# Altium schematic symbol library EDR.SchLib: 81 symbols
Pins are listed as number, name and electrical type; pins without a type are passive.

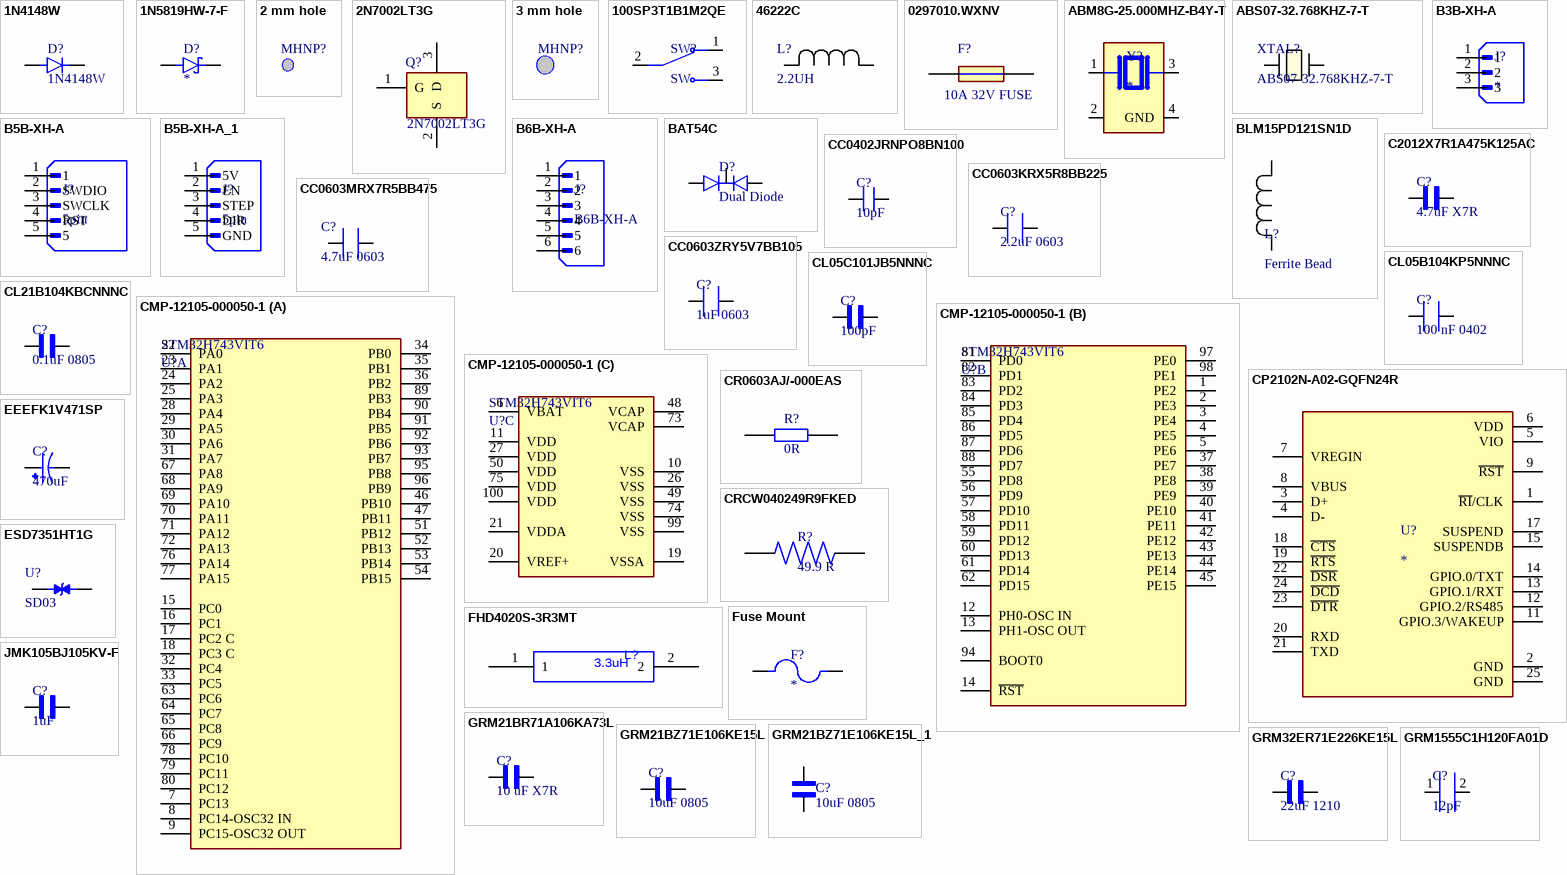
[diagram p0: symbols 1N4148W to JMK105BJ105KV-F]

## 1N4148W
designator D?
Small Signal Diode, SOD-123F, 100V, 0.15A, 150Â°C; MF: Diotec Semiconductor; SnapEDA_Link: https://www.snapeda.com/parts/1N4148W/Diotec/view-part/?ref=snap; Package: SOD-123F Diotec; Value: *; MP: 1N4148W; Check_prices: https://www.snapeda.com/parts/1N4148W/Diotec/view-part/?ref=eda
footprint SODFL3816X120N
pins: A, C K

## 1N5819HW-7-F
designator D?
Diode Schottky 40 V 1A Surface Mount SOD-123; MF: Diodes Inc.; MP: 1N5819HW-7-F; Value: *; SnapEDA_Link: https://www.snapeda.com/parts/1N5819HW-7-F/Diodes+Inc./view-part/?ref=snap; Purchase-URL: https://pricing.snapeda.com/search/part/1N5819HW-7-F/?ref=eda; Availability: In Stock; Price: None; Package: SOD-123 Fairchild Semiconductor; Check_prices: https://www.snapeda.com/parts/1N5819HW-7-F/Diodes+Inc./view-part/?ref=eda
footprint SOD3715X145N
pins: A, C K

## 2 mm hole
designator MHNP?, comment Mounting Hole Non plated 2mm  (value not drawn)
footprint 2 mm hole (Mounting Hole Non plated 2mm)

## 2N7002LT3G
designator Q?
RoHS Compliant; Small package discrete; Manufacturer_Name: onsemi; Geometry.Height: 1.11mm; Manufacturer_Part_Number: 2N7002LT3G; Mouser Part Number: 863-2N7002LT3G; Mouser Price/Stock: https://www.mouser.co.uk/ProductDetail/onsemi/2N7002LT3G?qs=vLkC5FC1VN%2FhV1CBpCulsw%3D%3D; Arrow Part Number: 2N7002LT3G; Arrow Price/Stock: https://www.arrow.com/en/products/2n7002lt3g/on-semiconductor?utm_currency=USD&region=nac; Datasheet Link: https://www.onsemi.com/pub/Collateral/2N7002L-D.PDF
footprint SOT96P237X111-3N
pins: 1 G, 2 S, 3 D

## 3 mm hole
designator MHNP?, comment Mounting Hole Non plated 2mm  (value not drawn)
Mounting Hole Non plated 3mm
footprint 3 mm hole (Mounting Hole Non plated 3mm)

## 100SP3T1B1M2QE
designator SW?, comment SW
TOGGLE, 5A, 120VAC/28VDC SPDT, On-Off-On, Panel Mount, Through Hole; MF: E-Switch; MP: 100SP3T1B1M2QE; SnapEDA_Link: https://www.snapeda.com/parts/100SP3T1B1M2QE/E-Switch/view-part/?ref=snap; Package: None; Value: *; Check_prices: https://www.snapeda.com/parts/100SP3T1B1M2QE/E-Switch/view-part/?ref=eda
footprint SW_100SP3T1B1M2QE
pins: 1, 2, 3

## 46222C
designator L?, comment 2.2UH
FIXED IND 2.2UH 5A 21 MOHM SMD; Manufacturer_Name: Murata; Manufacturer_Part_Number: 46222C; Copyright: Copyright (C) 2025 Ultra Librarian. All rights reserved.
footprint IND_4600_MUR
pins: 1, 2

## 0297010.WXNV
designator F?, comment 10A 32V FUSE
10 A AC 32 V DC Fuse Automotive Requires Holder Blade, Miniature; Manufacturer_Name: LITTELFUSE; Manufacturer_Part_Number: 0297010.WXNV; Geometry.Height: 8.8mm; Mouser Part Number: 576-0297010.WXNV; Mouser Price/Stock: https://www.mouser.co.uk/ProductDetail/Littelfuse/0297010.WXNV?qs=bpnLQM2ZShyfiVIOvdY7nQ%3D%3D; Arrow Part Number: 0297010.WXNV; Arrow Price/Stock: https://www.arrow.com/en/products/0297010.wxnv/littelfuse?utm_currency=USD&region=europe; Datasheet Link: https://www.littelfuse.com/~/media/automotive/datasheets/fuses/passenger-car-and-commercial-vehicle/blade-fuses/littelfuse_mini_datasheet.pdf
footprint 0297010WXNV
pins: 1, 2

## ABM8G-25.000MHZ-B4Y-T
designator Y?
25 MHz Â±30ppm Crystal 10pF 60 Ohms 4-SMD, No Lead; MP: ABM8G-25.000MHZ-B4Y-T; MF: Abracon; Value: *; SnapEDA_Link: https://www.snapeda.com/parts/ABM8G-25.000MHZ-B4Y-T/Abracon+LLC/view-part/?ref=snap; Check_prices: https://www.snapeda.com/parts/ABM8G-25.000MHZ-B4Y-T/Abracon+LLC/view-part/?ref=eda; Availability: In Stock; Price: None; Purchase-URL: https://pricing.snapeda.com/search/part/ABM8G-25.000MHZ-B4Y-T/?ref=eda; Package: SMD-4 Abracon
footprint XTAL_ABM8G-25.000MHZ-B4Y-T
pins: 1, 2 GND (power), 3 2, 4 GND (power)

## ABS07-32.768KHZ-7-T
designator XTAL?
Description; Manufacturer_Name: Abracon; Copyright: Copyright (C) 2025 Ultra Librarian. All rights reserved.; Manufacturer_Part_Number: ABS07-32.768KHZ-7-T
footprint XTAL_ABS07-32.768KHZ-7-T_ABR
pins: 1, 2

## B3B-XH-A
designator J?
Connector Header Through Hole 3 position 0.098 (2.50mm); MF: JST Sales; MP: B3B-XH-A; SnapEDA_Link: https://www.snapeda.com/parts/B3B-XH-A/JST/view-part/?ref=snap; Package: None; Value: *; Check_prices: https://www.snapeda.com/parts/B3B-XH-A/JST/view-part/?ref=eda
footprint JST_B3B-XH-A
pins: 1, 2, 3

## B5B-XH-A
designator J?, comment 5pin
Connector Header Through Hole 5 position 0.098 (2.50mm); MF: JST Sales; MP: B5B-XH-A; SnapEDA_Link: https://www.snapeda.com/parts/B5B-XH-A/JST+Sales+America+Inc./view-part/?ref=snap; Package: None; Value: *; Check_prices: https://www.snapeda.com/parts/B5B-XH-A/JST+Sales+America+Inc./view-part/?ref=eda
footprint JST_B5B-XH-A
pins: 1, 2 SWDIO, 3 SWCLK, 4 RST, 5

## B5B-XH-A_1
designator J?, comment 5pin
Connector Header Through Hole 5 position 0.098 (2.50mm); MF: JST Sales; MP: B5B-XH-A; SnapEDA_Link: https://www.snapeda.com/parts/B5B-XH-A/JST+Sales+America+Inc./view-part/?ref=snap; Package: None; Value: *; Check_prices: https://www.snapeda.com/parts/B5B-XH-A/JST+Sales+America+Inc./view-part/?ref=eda
footprint JST_B5B-XH-A
pins: 1 5V, 2 EN, 3 STEP, 4 DIR, 5 GND

## B6B-XH-A
designator J?
Connector Header Through Hole 6 position 0.098 (2.50mm); MF: {'manufacturer': u'JST Sales America Inc.'}; Package: None; Price: None; Value: *; MP: B6B-XH-A; Availability: Unavailable
footprint JST_B6B-XH-A
pins: 1, 2, 3, 4, 5, 6

## BAT54C
designator D?, comment Dual Diode
DIODE, SCHOTTKY, DUAL; Diode Type:Schottky; Voltage, Vrrm:30V; Current, If AV:300mA; Current, Ifsm:1A; Voltage, Vf Max:0.4V; Max Junction Temperature, Tj:150Â°C; Termination Type:SMD; Case Style:SOT-23; No. of Pins:3; Current, If ;RoHS Compliant: Yes; MF: ON Semiconductor; MP: BAT54C; SnapEDA_Link: https://www.snapeda.com/parts/BAT54C/Onsemi/view-part/?ref=snap; Package: SOT-23-3 ON Semiconductor; Value: *; Check_prices: https://www.snapeda.com/parts/BAT54C/Onsemi/view-part/?ref=eda
footprint SOT23-R
pins: 1 A1, 2 A2, 3 C

## BLM15PD121SN1D
designator L?, comment Ferrite Bead
Description; Manufacturer_Name: Murata; Manufacturer_Part_Number: BLM15PD121SN1D; Copyright: Copyright (C) 2025 Ultra Librarian. All rights reserved.
footprint BLM15P_FBD
pins: 1, 2

## C2012X7R1A475K125AC
designator C?, comment 4.7uF X7R
C Series 0805 4.7 uF 10 V Â±10% Tolerance X7R SMT Multilayer Ceramic Capacitor; MF: TDK; MP: C2012X7R1A475K125AC; Check_prices: https://www.snapeda.com/parts/C2012X7R1A475K125AC/TDK-Lambda+Americas+Inc/view-part/?ref=eda; Purchase-URL: https://pricing.snapeda.com/search/part/C2012X7R1A475K125AC/?ref=eda; Value: *; Availability: In Stock; Price: None; Package: 2012 TDK; SnapEDA_Link: https://www.snapeda.com/parts/C2012X7R1A475K125AC/TDK-Lambda+Americas+Inc/view-part/?ref=snap
footprint CAPC2012X145N
pins: 1, 2

## CC0402JRNPO8BN100
designator C?, comment 10pF
10 pF Â±5% 25V Ceramic Capacitor C0G, NP0 0402 (1005 Metric); MF: Yageo; MP: CC0402JRNPO8BN100; SnapEDA_Link: https://www.snapeda.com/parts/CC0402JRNPO8BN100/Yageo/view-part/?ref=snap; Package: 0402 Yageo; Value: *; Check_prices: https://www.snapeda.com/parts/CC0402JRNPO8BN100/Yageo/view-part/?ref=eda
footprint CAPC1005X55N
pins: 1, 2

## CC0603KRX5R8BB225
designator C?, comment 2.2uF 0603
2.2 ÂµF Â±10% 25V Ceramic Capacitor X5R 0603 (1608 Metric); MF: Yageo; MP: CC0603KRX5R8BB225; SnapEDA_Link: https://www.snapeda.com/parts/CC0603KRX5R8BB225/Yageo/view-part/?ref=snap; Package: 0603 Yageo; Value: *; Check_prices: https://www.snapeda.com/parts/CC0603KRX5R8BB225/Yageo/view-part/?ref=eda
footprint CAPC1608X90
pins: 1, 2

## CC0603MRX7R5BB475
designator C?, comment 4.7uF 0603
No Description Available; Manufacturer_Name: Yageo; Manufacturer_Part_Number: CC0603MRX7R5BB475; Copyright: Copyright (C) 2026 Ultra Librarian. All rights reserved.
footprint CAP_CC0603_YAG
pins: 1, 2

## CC0603ZRY5V7BB105
designator C?, comment 1uF 0603
1 ÂµF -20%, +80% 16V Ceramic Capacitor Y5V (F) 0603 (1608 Metric); MF: Yageo; MP: CC0603ZRY5V7BB105; SnapEDA_Link: https://www.snapeda.com/parts/CC0603ZRY5V7BB105/Yageo/view-part/?ref=snap; Package: 0603 Yageo; Value: *; Check_prices: https://www.snapeda.com/parts/CC0603ZRY5V7BB105/Yageo/view-part/?ref=eda
footprint CAPC1608X90
pins: 1, 2

## CL05B104KP5NNNC
designator C?, comment 100 nF 0402
0.1 ÂµF Â±10% 10V Ceramic Capacitor X7R 0402 (1005 Metric); MF: Samsung Electro-Mechanics; MP: CL05B104KP5NNNC; SnapEDA_Link: https://www.snapeda.com/parts/CL05B104KP5NNNC/Samsung/view-part/?ref=snap; Package: SMD-2 Samsung; Value: *; Check_prices: https://www.snapeda.com/parts/CL05B104KP5NNNC/Samsung/view-part/?ref=eda
footprint CAPC1005X55N
pins: 1, 2

## CL05C101JB5NNNC
designator C?, comment 100pF
100 pF Â±5% 50V Ceramic Capacitor C0G, NP0 0402 (1005 Metric); MF: Samsung Electro-Mechanics; MP: CL05C101JB5NNNC; SnapEDA_Link: https://www.snapeda.com/parts/CL05C101JB5NNNC/Samsung/view-part/?ref=snap; Package: SMD-2 Samsung; Value: *; Check_prices: https://www.snapeda.com/parts/CL05C101JB5NNNC/Samsung/view-part/?ref=eda
footprint CAPC1005X55N
pins: 1, 2

## CL21B104KBCNNNC
designator C?, comment 0.1uF 0805
0.1 ÂµF Â±10% 50V Ceramic Capacitor X7R 0805 (2012 Metric); MF: Samsung Electro-Mechanics; MP: CL21B104KBCNNNC; SnapEDA_Link: https://www.snapeda.com/parts/CL21B104KBCNNNC/Samsung/view-part/?ref=snap; Package: SMD-2 Samsung; Value: *; Check_prices: https://www.snapeda.com/parts/CL21B104KBCNNNC/Samsung/view-part/?ref=eda
footprint CAPC2012X95N
pins: 1, 2

## CMP-12105-000050-1
designator U?, comment STM32H743VIT6
IC MCU 32BIT 2MB FLASH 100LQFP; Manufacturer: STMicroelectronics; Number Of Ethernet Channels: 1; Number Of Usb Channels: 2; Number Of A/D Converters: 3; Min Supply Voltage: 1.71V; Ram Size: 1060KBytes; Number Of I2C Channels: 4; Frequency: 480MHz; Number Of Adc Channels: 36; Number Of I/Os: 82; Max Supply Voltage: 3.6V; Number Of Spi Channels: 6; Memory Size: 2MBytes; Max Junction Temp: +125°C; Core Architecture: Arm Cortex-M7; Interface: I2C,SPI,UART,USART,USB,LIN,IrDA,Ethernet,I2S,Other; Number Of Timers/Counters: 20; Data Bus Width: 32bits; Number Of Pwm Channels: 42; Number Of Uart Channels: 9; Standoff Height: 0.05mm; Device Class L1: Integrated Circuits (ICs); ComponentLink2URL: https://www.st.com/resource/en/datasheet/stm32h743vi.pdf; Automotive: No; Memory Type: FLASH; Number Of Cores: 1; Temperature Range Low: -40°C; RoHS: TRUE; Ambient Temperature Range Low: -40°C; ComponentLink2Description: Datasheet; Device Class L2: Embedded Processors and Controllers; Device Class L3: Microcontrollers; Digikey Description: IC MCU 32BIT 2MB FLASH 100LQFP; Temperature Range High: +125°C; Ambient Temperature Range High: +85°C; Package: LQFP100-1L; Temperature: -40°C to +125°C; Category: IC; Ipc Land Pattern Name: QFP50P1600X1600X160-100; Height: 1.6mm; Manufacturer Part Number: STM32H743VIT6; Octopart: https://octopart.com/stm32h743vit6-stmicroelectronics-76372527; Lead Free: Yes
footprint FP-LQFP100-1L-MFG
footprint FP-LQFP100-1L-IPC_C
footprint FP-LQFP100-1L-IPC_A
footprint FP-LQFP100-1L-IPC_B
part A pins: 7 PC13, 8 PC14-OSC32 IN, 9 PC15-OSC32 OUT, 15 PC0, 16 PC1, 17 PC2 C, 18 PC3 C, 22 PA0, 23 PA1, 24 PA2, 25 PA3, 28 PA4, 29 PA5, 30 PA6, 31 PA7, 32 PC4, 33 PC5, 34 PB0, 35 PB1, 36 PB2, 46 PB10, 47 PB11, 51 PB12, 52 PB13, 53 PB14, 54 PB15, 63 PC6, 64 PC7, 65 PC8, 66 PC9, 67 PA8, 68 PA9, 69 PA10, 70 PA11, 71 PA12, 72 PA13, 76 PA14, 77 PA15, 78 PC10, 79 PC11, 80 PC12, 89 PB3, 90 PB4, 91 PB5, 92 PB6, 93 PB7, 95 PB8, 96 PB9
part B pins: 1 PE2, 2 PE3, 3 PE4, 4 PE5, 5 PE6, 12 PH0-OSC IN, 13 PH1-OSC OUT, 14 ~{RST}, 37 PE7, 38 PE8, 39 PE9, 40 PE10, 41 PE11, 42 PE12, 43 PE13, 44 PE14, 45 PE15, 55 PD8, 56 PD9, 57 PD10, 58 PD11, 59 PD12, 60 PD13, 61 PD14, 62 PD15, 81 PD0, 82 PD1, 83 PD2, 84 PD3, 85 PD4, 86 PD5, 87 PD6, 88 PD7, 94 BOOT0, 97 PE0, 98 PE1
part C pins: 6 VBAT (power), 10 VSS (power), 11 VDD (power), 19 VSSA (power), 20 VREF+ (power), 21 VDDA (power), 26 VSS (power), 27 VDD (power), 48 VCAP, 49 VSS (power), 50 VDD (power), 73 VCAP, 74 VSS (power), 75 VDD (power), 99 VSS (power), 100 VDD (power)

## CP2102N-A02-GQFN24R
designator U?
IC USB TO UART BRIDGE QFN24; MP: CP2102N-A02-GQFN24R; Value: *; Package: None; Availability: Unavailable; Price: None
footprint QFN50P400X400X80-25N
pins: 1 ~{RI}/CLK, 2 GND (power), 3 D+, 4 D-, 5 VIO (power), 6 VDD (power), 7 VREGIN, 8 VBUS, 9 ~{RST}, 11 GPIO.3/WAKEUP, 12 GPIO.2/RS485, 13 GPIO.1/RXT, 14 GPIO.0/TXT, 15 SUSPENDB, 17 SUSPEND, 18 ~{CTS}, 19 ~{RTS}, 20 RXD, 21 TXD, 22 ~{DSR}, 23 ~{DTR}, 24 ~{DCD}, 25 GND (power)

## CR0603AJ/-000EAS
designator R?, comment 0R
Resistor, AS 0603 0R Jumper 100mW, AEC-Q, Anti-Sulur | Bourns CR0603AJ/-000EAS; MF: Bourns Inc.; SnapEDA_Link: https://www.snapeda.com/parts/CR0603AJ/-000EAS/Bourns/view-part/?ref=snap; Package: 0603-2 Bourns; Value: *; MP: CR0603AJ/-000EAS; Check_prices: https://www.snapeda.com/parts/CR0603AJ/-000EAS/Bourns/view-part/?ref=eda
footprint RESC1608X55N
pins: 1, 2

## CRCW040249R9FKED
designator R?, comment 49.9 R
Resistor,Thick Film,49.9 Ohms,0.063 W,1%,SMT,0402,TCR 37 ppm/DegC,Cut Tape | Vishay Dale CRCW040249R9FKED; SnapEDA_Link: https://www.snapeda.com/parts/CRCW040249R9FKED/Vishay+Dale/view-part/?ref=snap; Package: 1005 Panasonic Electronic Components; Value: *; MF: Vishay Dale; MP: CRCW040249R9FKED; Check_prices: https://www.snapeda.com/parts/CRCW040249R9FKED/Vishay+Dale/view-part/?ref=eda
footprint RESC1005X40N
pins: 1, 2

## EEEFK1V471SP
designator C?, comment 470uF
470ÂµF 35V Aluminum Electrolytic Capacitors Radial, Can - SMD 80mOhm @ 100kHz 2000 Hrs @ 105Â°C; MF: Panasonic Electronic; MP: EEE-FK1V471SP; Availability: In Stock; Price: None; SnapEDA_Link: https://www.snapeda.com/parts/EEE-FK1V471SP/Panasonic%20Electronic%20Components/view-part/2333405/?ref=snap; Value: *; Check_prices: https://www.snapeda.com/parts/EEE-FK1V471SP/Panasonic%20Electronic%20Components/view-part/2333405/?ref=eda; Package: RADIAL-2 Panasonic
footprint CAP_EEEFK1V471SP
pins: 1, 2

## ESD7351HT1G
designator U?, comment SD03
Description; Manufacturer_Name: onsemi; Manufacturer_Part_Number: ESD7351HT1G; Copyright: Copyright (C) 2026 Ultra Librarian. All rights reserved.; RefDes: RefDes; Type: Type
footprint SOD-323_1P7X1P25_ONS
pins: 1, 2

## FHD4020S-3R3MT
designator L?, comment 3.3uH
FHD4020S-3R3MT; TRONIC Part No: IN0008
footprint IND-SMD_L4.0-W4.0
pins: 1, 2

## Fuse Mount
designator F?
Auto Fuse Holder, Mini, THM, 1 Fuse, 30Amp, Hi-Temp Nylon, UL94V-0, Brass/Tin | Keystone Electronics 3568; MP: 3568; SnapEDA_Link: https://www.snapeda.com/parts/3568/Keystone/view-part/?ref=snap; Package: NON STANDARD Keystone; Value: *; MF: Keystone Electronics; Check_prices: https://www.snapeda.com/parts/3568/Keystone/view-part/?ref=eda
footprint FUSE_3568
pins: 1, 2, 3 1, 4 2

## GRM21BR71A106KA73L
designator C?, comment 10 uF X7R
SMD capacitor X7R(EIA) with capacitance 10uF Tol.10%. Rated voltage 10Vdc 125C; MF: Murata Electronics; MP: GRM21BR71A106KA73L; SnapEDA_Link: https://www.snapeda.com/parts/GRM21BR71A106KA73L/Murata+Electronics+North+America/view-part/?ref=snap; Package: 2012 Murata; Value: *; Check_prices: https://www.snapeda.com/parts/GRM21BR71A106KA73L/Murata+Electronics+North+America/view-part/?ref=eda
footprint CAPC2012X140N
pins: 1, 2

## GRM21BZ71E106KE15L
designator C?, comment 10uF 0805
SMD capacitor X7R(MURATA) with capacitance 10uF Tol.10%. Rated voltage 25Vdc 125C; MP: GRM21BZ71E106KE15L; SnapEDA_Link: https://www.snapeda.com/parts/GRM21BZ71E106KE15L/Murata/view-part/?ref=snap; Package: 2012 Murata; Value: *; MF: Murata; Check_prices: https://www.snapeda.com/parts/GRM21BZ71E106KE15L/Murata/view-part/?ref=eda
footprint CAPC2012X145N
pins: 1, 2

## GRM21BZ71E106KE15L_1
designator C?, comment 10uF 0805
SMD capacitor X7R(MURATA) with capacitance 10uF Tol.10%. Rated voltage 25Vdc 125C; MP: GRM21BZ71E106KE15L; SnapEDA_Link: https://www.snapeda.com/parts/GRM21BZ71E106KE15L/Murata/view-part/?ref=snap; Package: 2012 Murata; Value: *; MF: Murata; Check_prices: https://www.snapeda.com/parts/GRM21BZ71E106KE15L/Murata/view-part/?ref=eda
footprint CAPC2012X145N
pins: 1, 2

## GRM32ER71E226KE15L
designator C?, comment 22uF 1210
SMD capacitor X7R(EIA) with capacitance 22uF Tol.10%. Rated voltage 25Vdc 125C; MF: Murata Electronics; MP: GRM32ER71E226KE15L; SnapEDA_Link: https://www.snapeda.com/parts/GRM32ER71E226KE15L/Murata+Electronics+North+America/view-part/?ref=snap; Package: 3225 Murata; Value: *; Check_prices: https://www.snapeda.com/parts/GRM32ER71E226KE15L/Murata+Electronics+North+America/view-part/?ref=eda
footprint CAPC3225X270N
pins: 1, 2

## GRM1555C1H120FA01D
designator C?, comment 12pF
0402 12 pF 50 V Â±1% Tolerance C0G SMT Multilayer Ceramic Capacitor; MP: GRM1555C1H120FA01D; Package: None; Price: None; Value: *; Availability: Unavailable
footprint CAPC1005X55N
pins: 1, 2

## JMK105BJ105KV-F
designator C?, comment 1uF
1 ÂµF Â±10% 6.3V Ceramic Capacitor X5R 0402 (1005 Metric); MF: Taiyo Yuden; MP: JMK105BJ105KV-F; SnapEDA_Link: https://www.snapeda.com/parts/JMK105BJ105KV-F/Taiyo+Yuden/view-part/?ref=snap; Package: 1005 Taiyo Yuden; Value: *; Check_prices: https://www.snapeda.com/parts/JMK105BJ105KV-F/Taiyo+Yuden/view-part/?ref=eda
footprint CAPC1005X55N
pins: 1, 2

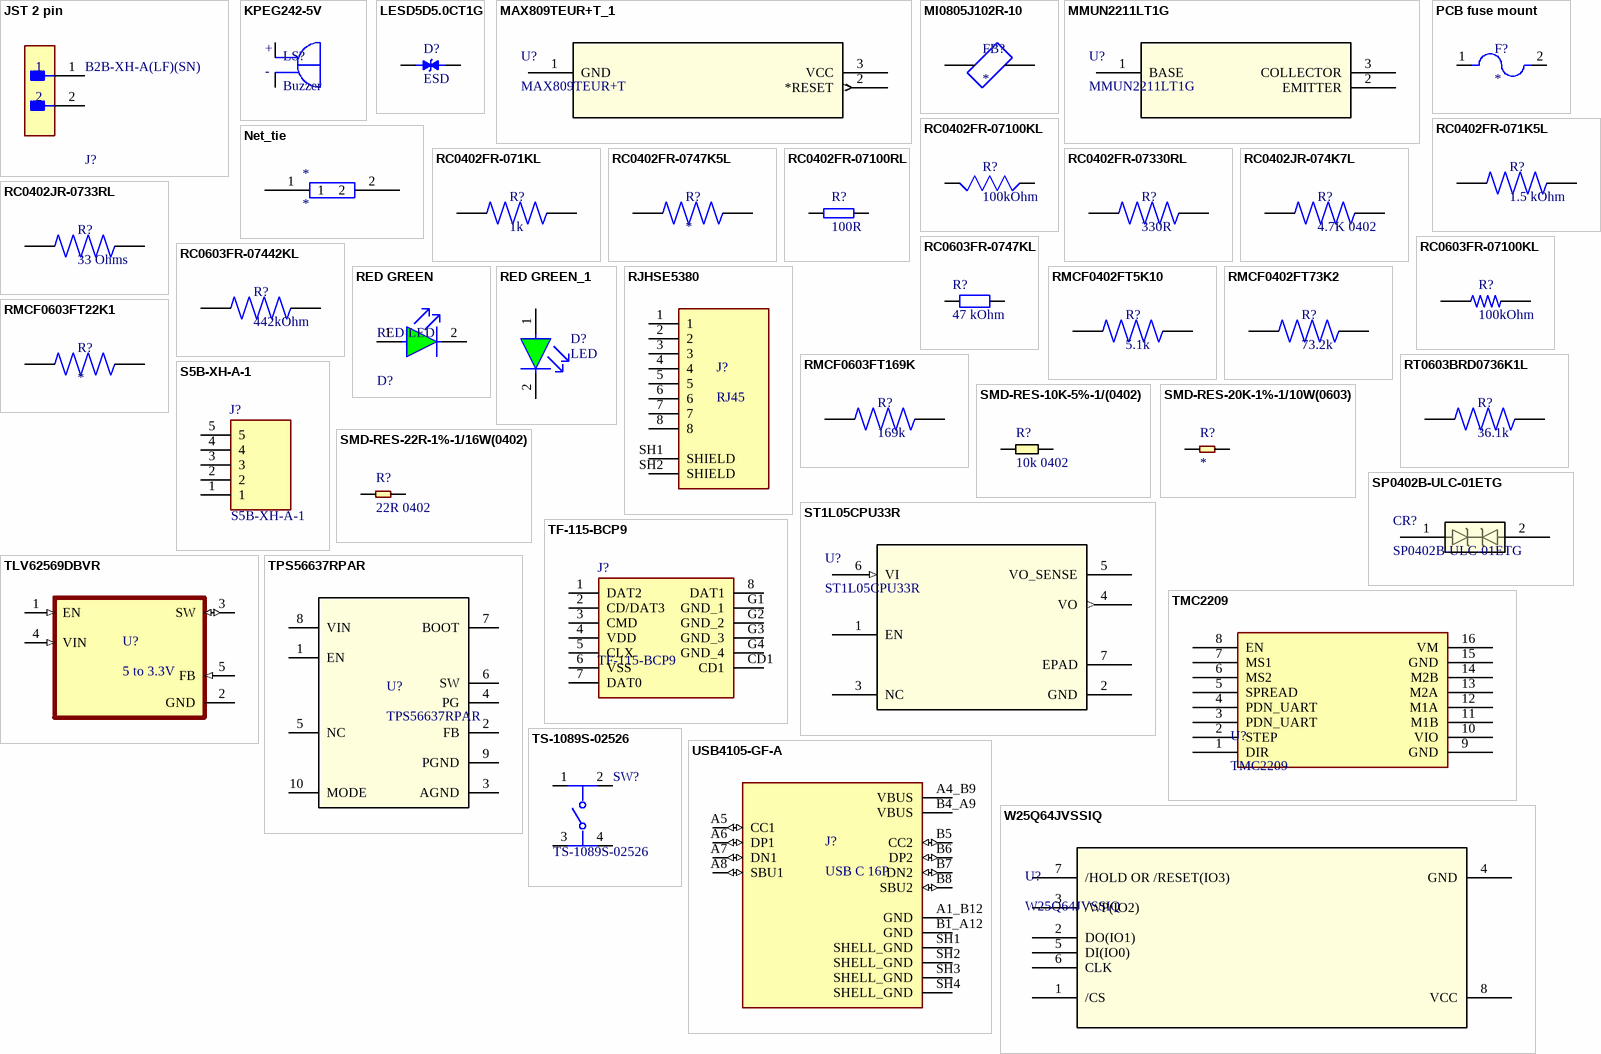
[diagram p1: symbols JST 2 pin to W25Q64JVSSIQ]

## JST 2 pin
designator J?, comment B2B-XH-A(LF)(SN)
B2B-XH-A(LF)(SN) / CONN HEADER VERT 2POS 2.5MM; Current Rating: 3A; Voltage Rating: 250V; Number of Contacts: 2; Contact Resistance: 20mR; Wire/Cable Gauge: 22AWG; Insulation Resistance: 1GR; Connector Type: Male Pin; Packaging: Bulk; Contact Material: Brass; Lead Free: Lead Free; Orientation: Straight; Contact Plating: Tin; Max Current Rating: 3A; Termination: Solder; Fastening Type: Detent; Depth: 5.75mm; Housing Material: Polyamide; REACH SVHC: No SVHC; Series: XH; Voltage Rating (AC): 250V; Number of Positions: 2; Color: Natural; Contact Type: Male Pin; Max Voltage Rating (DC): 250V; Pitch: 2.5mm; Lead Pitch: 2.5mm; Mount: Through Hole; Max Operating Temperature: 85°C; Length: 7.4mm; Max Voltage Rating (AC): 250V; Min Operating Temperature: -25°C; Number of Rows: 1; Housing Color: White; LCSC Part No: C158012
footprint FP-B2B-XH-A_LF_SN-MFG
pins: 1, 2

## KPEG242-5V
designator LS?, comment Buzzer
MP: KPEG242-5V; Availability: Unavailable; Price: None; Package: None; Value: *
footprint XDCR_KPEG242-5V
pins: N NEG, P POS
text: +; -

## LESD5D5.0CT1G
designator D?, comment ESD
Transient Voltage Suppressors for ESD Protection; MF: Leshan Radio Co.; MP: LESD5D5.0CT1G; Check_prices: https://www.snapeda.com/parts/LESD5D5.0CT1G/Leshan+Radio+Co./view-part/?ref=eda; Value: *; Availability: Not in stock; Package: None; SnapEDA_Link: https://www.snapeda.com/parts/LESD5D5.0CT1G/Leshan+Radio+Co./view-part/?ref=snap; Price: None
footprint TVS_LESD5D5.0CT1G
pins: 1, 2

## MAX809TEUR+T_1
designator U?, comment MAX809TEUR+T
3-Pin Microprocessor Reset Circuits; Manufacturer_Name: Analog Devices Inc; Copyright: Copyright (C) 2026 Ultra Librarian. All rights reserved.; Manufacturer_Part_Number: MAX809TEUR+T; RefDes: RefDes; Type: Type
footprint 21-0051H_MXM
pins: 1 GND (power), 2 *RESET (out), 3 VCC (power)

## MI0805J102R-10
designator FB?
EMI Ferrite Chip Bead, 0805, 1000MA, 1000 Ohms @100MHz, DCR Max 0.150Ohm | Laird Performance Materials MI0805J102R-10; MF: Laird-Signal Integrity Products; SnapEDA_Link: https://www.snapeda.com/parts/MI0805J102R-10/Laird-Signal+Integrity+Products/view-part/?ref=snap; Package: 0805 Laird; Value: *; MP: MI0805J102R-10; Check_prices: https://www.snapeda.com/parts/MI0805J102R-10/Laird-Signal+Integrity+Products/view-part/?ref=eda
footprint FB_MI0805J102R-10
pins: 1, 2

## MMUN2211LT1G
designator U?
TRANS PREBIAS NPN 50V SOT23-3; Manufacturer_Name: onsemi; Copyright: Copyright (C) 2025 Ultra Librarian. All rights reserved.; Manufacturer_Part_Number: MMUN2211LT1G; RefDes: RefDes; Type: Type
footprint SOT-23-3_1P4X3P040_ONS
pins: 1 BASE, 2 EMITTER, 3 COLLECTOR

## Net_tie
designator *  (net tie, no BOM)
footprint NetTie_Power_5mm
pins: 1, 2

## PCB fuse mount
designator F?
5mm Low Profile Holder; Hexanode Part No: 3000908; MP: 4527; MF: Keystone; Price: None; Purchase-URL: https://pricing.snapeda.com/search/part/4527/?ref=eda; Package: None; Availability: In Stock; SnapEDA_Link: https://www.snapeda.com/parts/4527/Keystone+Electronics/view-part/?ref=snap; Value: *; Check_prices: https://www.snapeda.com/parts/4527/Keystone+Electronics/view-part/?ref=eda; ComponentLink1Description: Hexanode Link; ComponentLink1URL: https://shop.hexanode.lk/product/pcb-mount-fuse-holder-5x20mm-black/
footprint FUSE_4527
pins: 1, 2

## RC0402FR-071K5L
designator R?, comment 1.5 kOhm
1.5 kOhms Â±1% 0.063W, 1/16W Chip Resistor 0402 (1005 Metric) Moisture Resistant Thick Film; MF: Yageo; MP: RC0402FR-071K5L; SnapEDA_Link: https://www.snapeda.com/parts/RC0402FR-071K5L/Yageo/view-part/?ref=snap; Package: 1005 Panasonic Electronic Components; Value: *; Check_prices: https://www.snapeda.com/parts/RC0402FR-071K5L/Yageo/view-part/?ref=eda
footprint RESC1005X40N
pins: 1, 2

## RC0402FR-071KL
designator R?, comment 1k
1 kOhms Â±1% 0.063W, 1/16W Chip Resistor 0402 (1005 Metric) Moisture Resistant Thick Film; MF: Yageo Corporation; MP: RC0402FR071KL; SnapEDA_Link: https://www.snapeda.com/parts/RC0402FR071KL/Yageo/view-part/?ref=snap; Package: 0402-2 YAGEO; Value: *; Check_prices: https://www.snapeda.com/parts/RC0402FR071KL/Yageo/view-part/?ref=eda
footprint RESC1005X40N
pins: 1, 2

## RC0402FR-0747K5L
designator R?
47.5 kOhms Â±1% 0.063W, 1/16W Chip Resistor 0402 (1005 Metric) Moisture Resistant Thick Film; MF: Yageo; MP: RC0402FR-0747K5L; SnapEDA_Link: https://www.snapeda.com/parts/RC0402FR-0747K5L/Yageo/view-part/?ref=snap; Package: 1005 Panasonic Electronic Components; Value: *; Check_prices: https://www.snapeda.com/parts/RC0402FR-0747K5L/Yageo/view-part/?ref=eda
footprint RESC1005X40N
pins: 1, 2

## RC0402FR-07100KL
designator R?, comment 100kOhm
100 kOhms Â±1% 0.063W, 1/16W Chip Resistor 0402 (1005 Metric) Moisture Resistant Thick Film; MF: Yageo; MP: RC0402FR-07100KL; SnapEDA_Link: https://www.snapeda.com/parts/RC0402FR-07100KL/Yageo/view-part/?ref=snap; Package: 0402 Yageo; Value: *; Check_prices: https://www.snapeda.com/parts/RC0402FR-07100KL/Yageo/view-part/?ref=eda
footprint RESC1005X40
pins: 1, 2

## RC0402FR-07100RL
designator R?, comment 100R
100 Ohms Â±1% 0.063W, 1/16W Chip Resistor 0402 (1005 Metric) Moisture Resistant Thick Film; MF: Yageo; MP: RC0402FR-07100RL; SnapEDA_Link: https://www.snapeda.com/parts/RC0402FR-07100RL/Yageo/view-part/?ref=snap; Package: 0402 Yageo; Value: *; Check_prices: https://www.snapeda.com/parts/RC0402FR-07100RL/Yageo/view-part/?ref=eda
footprint RESC1005X40
pins: 1, 2

## RC0402FR-07330RL
designator R?, comment 330R
330 Ohms Â±1% 0.063W, 1/16W Chip Resistor 0402 (1005 Metric) Moisture Resistant Thick Film; MF: Yageo; MP: RC0402FR-07330RL; SnapEDA_Link: https://www.snapeda.com/parts/RC0402FR-07330RL/Yageo/view-part/?ref=snap; Package: 1005 Panasonic Electronic Components; Value: *; Check_prices: https://www.snapeda.com/parts/RC0402FR-07330RL/Yageo/view-part/?ref=eda
footprint RESC1005X40N
pins: 1, 2

## RC0402JR-074K7L
designator R?, comment 4.7K 0402
RES 4.7K OHM 5% 1/16W 0402; MF: {'manufacturer': u'YAGEO'}; MP: RC0402JR-074K7L; Package: None; Price: None; Value: *; Availability: Unavailable
footprint RESC1005X40N
pins: 1, 2

## RC0402JR-0733RL
designator R?, comment 33 Ohms
33 Ohms Â±5% 0.063W, 1/16W Chip Resistor 0402 (1005 Metric) Moisture Resistant Thick Film; MF: Yageo; MP: RC0402JR-0733RL; SnapEDA_Link: https://www.snapeda.com/parts/RC0402JR-0733RL/Yageo/view-part/?ref=snap; Package: 1005 Panasonic Electronic Components; Value: *; Check_prices: https://www.snapeda.com/parts/RC0402JR-0733RL/Yageo/view-part/?ref=eda
footprint RESC1005X40N
pins: 1, 2

## RC0603FR-0747KL
designator R?, comment 47 kOhm
47 kOhms Â±1% 0.1W, 1/10W Chip Resistor 0603 (1608 Metric) Moisture Resistant Thick Film; MF: Yageo; MP: RC0603FR-0747KL; SnapEDA_Link: https://www.snapeda.com/parts/RC0603FR-0747KL/Yageo/view-part/?ref=snap; Package: SMD-2 Yageo; Value: *; Check_prices: https://www.snapeda.com/parts/RC0603FR-0747KL/Yageo/view-part/?ref=eda; LCSC Part Number: *
footprint RESC1608X55
pins: 1, 2

## RC0603FR-07100KL
designator R?, comment 100kOhm
100 kOhms Â±1% 0.1W, 1/10W Chip Resistor 0603 (1608 Metric) Moisture Resistant Thick Film; MF: Yageo; MP: RC0603FR-07100KL; SnapEDA_Link: https://www.snapeda.com/parts/RC0603FR-07100KL/Yageo/view-part/?ref=snap; Package: 0603 Yageo; Value: *; Check_prices: https://www.snapeda.com/parts/RC0603FR-07100KL/Yageo/view-part/?ref=eda; LCSC Part Number: *
footprint RESC1607X60N
pins: 1, 2

## RC0603FR-07442KL
designator R?, comment 442kOhm
442 kOhms Â±1% 0.1W, 1/10W Chip Resistor 0603 (1608 Metric) Moisture Resistant Thick Film; MF: Yageo; MP: RC0603FR-07442KL; SnapEDA_Link: https://www.snapeda.com/parts/RC0603FR-07442KL/Yageo/view-part/?ref=snap; Package: 1608 Yageo; Value: *; Check_prices: https://www.snapeda.com/parts/RC0603FR-07442KL/Yageo/view-part/?ref=eda; LCSC Part Number: *
footprint RESC1608X55N
pins: 1, 2

## RED GREEN
designator D?, comment RED LED
LED RED CLEAR SMD; TRONIC part No: LE0011; LCSC Part Number: *
footprint FP-SML-LX0805SRC-TR-MFG
pins: 1 A, 2 C

## RED GREEN_1
designator D?, comment LED
LED RED CLEAR SMD; TRONIC part No: LE0011
footprint FP-SML-LX0805SRC-TR-MFG
pins: 1 A, 2 C

## RJHSE5380
designator J?, comment RJ45
CONN MOD JACK 8P8C R/A SHIELDED; MF: Amphenol; MP: RJHSE5380; Package: None; Price: None; Value: *; Availability: Unavailable; LCSC Part Number: *
footprint AMPHENOL_RJHSE5380
pins: 1, 2, 3, 4, 5, 6, 7, 8, SH1 SHIELD, SH2 SHIELD

## RMCF0402FT5K10
designator R?, comment 5.1k
5.1 kOhms Â±1% 0.063W, 1/16W Chip Resistor 0402 (1005 Metric) Automotive AEC-Q200 Thick Film; MF: Stackpole Electronics Inc; MP: RMCF0402FT5K10; SnapEDA_Link: https://www.snapeda.com/parts/RMCF0402FT5K10/Stackpole+Electronics/view-part/?ref=snap; Package: 1005 Stackpole; Value: *; Check_prices: https://www.snapeda.com/parts/RMCF0402FT5K10/Stackpole+Electronics/view-part/?ref=eda; LCSC Part Number: *
footprint RESC1005X35N
pins: 1, 2

## RMCF0402FT73K2
designator R?, comment 73.2k
RES 73.2K OHM 1% 1/16W 0402; MP: RMCF0402FT73K2; Package: None; Price: None; Value: *; Availability: Unavailable
footprint RESC1005X35N
pins: 1, 2

## RMCF0603FT22K1
designator R?
22.1 kOhms Â±1% 0.1W, 1/10W Chip Resistor 0603 (1608 Metric) Automotive AEC-Q200 Thick Film; MF: Stackpole Electronics Inc; MP: RMCF0603FT22K1; SnapEDA_Link: https://www.snapeda.com/parts/RMCF0603FT22K1/Stackpole+Electronics/view-part/?ref=snap; Package: 1508 Stackpole; Value: *; Check_prices: https://www.snapeda.com/parts/RMCF0603FT22K1/Stackpole+Electronics/view-part/?ref=eda
footprint RESC1508X55N
pins: 1, 2

## RMCF0603FT169K
designator R?, comment 169k
169 kOhms Â±1% 0.1W, 1/10W Chip Resistor 0603 (1608 Metric) Automotive AEC-Q200 Thick Film; MF: Stackpole Electronics Inc; MP: RMCF0603FT169K; SnapEDA_Link: https://www.snapeda.com/parts/RMCF0603FT169K/Stackpole+Electronics/view-part/?ref=snap; Package: 1508 Stackpole; Value: *; Check_prices: https://www.snapeda.com/parts/RMCF0603FT169K/Stackpole+Electronics/view-part/?ref=eda; LCSC Part Number: *
footprint RESC1508X55N
pins: 1, 2

## RT0603BRD0736K1L
designator R?, comment 36.1k
RES SMD 36.1KOHM 0.1% 1/10W 0603; MF: {'manufacturer': u'YAGEO'}; MP: RT0603BRD0736K1L; Package: None; Price: None; Value: *; Availability: Unavailable; LCSC Part Number: *
footprint RESC1608X55N
pins: 1, 2

## S5B-XH-A-1
designator J?
Connector Header Through Hole, Right Angle 5 position 0.098" (2.50mm), 250V, 3A, -25C ~ 85C; Manufacturer_Name: JST (JAPAN SOLDERLESS TERMINALS); Geometry.Height: 6.1mm; Manufacturer_Part_Number: S5B-XH-A-1; LCSC Part Number: *; Mouser Price/Stock: *; Arrow Part Number: *; Arrow Price/Stock: *; Datasheet Link: https://www.jst-mfg.com/product/pdf/eng/eXH.pdf
footprint S5BXHA1
pins: 1, 2, 3, 4, 5

## SMD-RES-10K-5%-1/(0402)
designator R?, comment 10k 0402
301010004; MF: {'manufacturer': u'YAGEO'}; MP: RC0402JR-0710KL; Package: None; Price: None; Value: *; Availability: Unavailable; LCSC Part Number: *
footprint RESC1005X40N
pins: 1, 2

## SMD-RES-20K-1%-1/10W(0603)
designator R?
20 kOhms Â±1% 0.1W, 1/10W Chip Resistor 0603 (1608 Metric) Moisture Resistant Thick Film; MF: Yageo; MP: RC0603FR-0720KL; SnapEDA_Link: https://www.snapeda.com/parts/RC0603FR-0720KL/Yageo/view-part/?ref=snap; Package: 0603 Yageo; Value: *; Check_prices: https://www.snapeda.com/parts/RC0603FR-0720KL/Yageo/view-part/?ref=eda; LCSC Part Number: *
footprint R0603
pins: 1, 2

## SMD-RES-22R-1%-1/16W(0402)
designator R?, comment 22R 0402
22 Ohms Â±1% 0.063W, 1/16W Chip Resistor 0402 (1005 Metric) Moisture Resistant Thick Film; MF: Yageo; MP: RC0402FR-0722RL; SnapEDA_Link: https://www.snapeda.com/parts/RC0402FR-0722RL/Yageo/view-part/?ref=snap; Package: 0402 Yageo; Value: *; Check_prices: https://www.snapeda.com/parts/RC0402FR-0722RL/Yageo/view-part/?ref=eda; LCSC Part Number: *
footprint R0402
pins: 1, 2

## SP0402B-ULC-01ETG
designator CR?
Description; Manufacturer_Name: Littelfuse Inc; Copyright: Copyright (C) 2025 Ultra Librarian. All rights reserved.; Manufacturer_Part_Number: SP0402B-ULC-01ETG; RefDes: RefDes; Type: Type; LCSC Part Number: *
footprint SP0402_LTF
pins: 1, 2

## ST1L05CPU33R
designator U?
Very low quiescent BiCMOS voltage regulator; Manufacturer_Name: STMicroelectronics; Copyright: Copyright (C) 2026 Ultra Librarian. All rights reserved.; Manufacturer_Part_Number: ST1L05CPU33R; RefDes: RefDes; Type: Type; LCSC Part Number: *
footprint DFN6_3X3_STM
pins: 1 EN, 2 GND (power), 3 NC, 4 VO (out), 5 VO_SENSE, 6 VI (in), 7 EPAD

## TF-115-BCP9
designator J?
-25~+85 1.8mm Tin Deck MicroSD card (TF card) 260 C5191 Self bomb SMD SD Card Connectors ROHS; Manufacturer_Name: XUNPU; Geometry.Height: 2mm; Manufacturer_Part_Number: TF-115-BCP9; LCSC Part Number: C720505; Mouser Price/Stock: *; Arrow Part Number: *; Arrow Price/Stock: *; Datasheet Link: https://datasheet.lcsc.com/lcsc/2109061830_XUNPU-TF-115-BCP9_C720505.pdf
footprint TF115BCP9
pins: 1 DAT2, 2 CD/DAT3, 3 CMD, 4 VDD, 5 CLX, 6 VSS, 7 DAT0, 8 DAT1, CD1, G1 GND_1, G2 GND_2, G3 GND_3, G4 GND_4

## TLV62569DBVR
designator U?, comment 5 to 3.3V
2.5V-5.5V input, 2-A high efficiency step-down buck converter in SOT23 and SOT563 package; MF: Texas Instruments; MP: TLV62569DBVR; SnapEDA_Link: https://www.snapeda.com/parts/TLV62569DBVR/Texas+Instruments/view-part/?ref=snap; Package: SOT-23-5 Texas Instruments; Value: *; Check_prices: https://www.snapeda.com/parts/TLV62569DBVR/Texas+Instruments/view-part/?ref=eda
footprint SOT95P280X145-5N
pins: 1 EN (in), 2 GND (power), 3 SW (io), 4 VIN (in), 5 FB (in)

## TMC2209
designator U?
footprint TMC2209
pins: 1 DIR, 2 STEP, 3 PDN_UART, 4 PDN_UART, 5 SPREAD, 6 MS2, 7 MS1, 8 EN, 9 GND, 10 VIO, 11 M1B, 12 M1A, 13 M2A, 14 M2B, 15 GND, 16 VM

## TPS56637RPAR
designator U?
4.5-V to 28-V, 6-A synchronous buck converter with ULQ-Mode 10-VQFN-HR -40 to 150; Manufacturer_Name: Texas Instruments; TYPE: TYPE; RefDes: RefDes; Copyright: Copyright (C) 2026 Ultra Librarian. All rights reserved.; Manufacturer_Part_Number: TPS56637RPAR; LCSC Part Number: C841386
footprint CONV_TPS56637RPAR
pins: 1 EN (power), 2 FB (power), 3 AGND (power), 4 PG (power), 5 NC, 6 SW (power), 7 BOOT (power), 8 VIN (power), 9 PGND (power), 10 MODE (power)

## TS-1089S-02526
designator SW?
Tactile Switch SPST 2.5mm 4.2mm x 3.25mm Surface Mount; Manufacturer_Name: ALPS Electric; Manufacturer_Part_Number: TS-1089S-02526; LCSC Part Number: C455282; Arrow Part Number: *; Arrow Price/Stock: *; Datasheet Link: https://tech.alpsalpine.com/e/products/detail/SKRPANE010/#ancFig2; Geometry.Height: 2.5mm
footprint SKRPANE010
pins: 1, 2, 3, 4

## USB4105-GF-A
designator J?, comment USB C 16P
CONN RCP USB2.0 TYP C 16P SMD RA; MF: {'manufacturer': u'GCT'}; MP: USB4105-GF-A; Package: None; Price: None; Value: *; Availability: Unavailable; LCSC Part Number: C5184243
footprint GCT_USB4105-GF-A
pins: A1_B12 GND (power), A4_B9 VBUS (power), A5 CC1 (io), A6 DP1 (io), A7 DN1 (io), A8 SBU1 (io), B1_A12 GND (power), B4_A9 VBUS (power), B5 CC2 (io), B6 DP2 (io), B7 DN2 (io), B8 SBU2 (io), SH1 SHELL_GND (power), SH2 SHELL_GND (power), SH3 SHELL_GND (power), SH4 SHELL_GND (power)

## W25Q64JVSSIQ
designator U?
IC FLASH 64MBIT SPI/QUAD 8SOIC; Manufacturer_Name: Winbond; Copyright: Copyright (C) 2025 Ultra Librarian. All rights reserved.; Manufacturer_Part_Number: W25Q64JVSSIQ; RefDes: RefDes; Type: Type; LCSC Part Number: C179171
footprint SOIC-8_5P28X5P28_WIN
pins: 1 /CS, 2 DO(IO1), 3 /WP(IO2), 4 GND (power), 5 DI(IO0), 6 CLK, 7 /HOLD OR /RESET(IO3), 8 VCC (power)

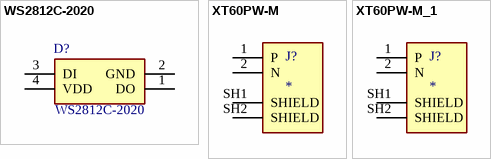
[diagram p2: symbols WS2812C-2020 to XT60PW-M_1]

## WS2812C-2020
designator D?
Intelligent control LED integrated light source; Manufacturer_Name: Worldsemi; Geometry.Height: 0.84mm; Manufacturer_Part_Number: WS2812C-2020; LCSC Part Number: C2976072; Mouser Price/Stock: *; Arrow Part Number: *; Arrow Price/Stock: *; Datasheet Link: http://www.world-semi.com/DownLoadFile/139
footprint WS2812C2020
pins: 1 DO, 2 GND, 3 DI, 4 VDD

## XT60PW-M
designator J?
Socket, DC supply, male, PIN: 2; MF: AMASS; MP: XT60PW-M; SnapEDA_Link: https://www.snapeda.com/parts/XT60PW-M/AMASS/view-part/?ref=snap; Package: Package; LCSC Part Number: C98732; Check_prices: https://www.snapeda.com/parts/XT60PW-M/AMASS/view-part/?ref=eda
footprint AMASS_XT60PW-M
pins: 1 P, 2 N, SH1 SHIELD, SH2 SHIELD

## XT60PW-M_1
designator J?
Socket, DC supply, male, PIN: 2; MF: AMASS; MP: XT60PW-M; SnapEDA_Link: https://www.snapeda.com/parts/XT60PW-M/AMASS/view-part/?ref=snap; Package: Package; LCSC Part Number: C98732; Manufacturer Part Number: XT60PW-M
footprint AMASS_XT60PW-M
pins: 1 P, 2 N, SH1 SHIELD, SH2 SHIELD